# Altium footprint library PcbLib1.PcbLib: 23 footprints (part 2 of 2)
Each footprint in its own frame and in the unit in brackets; x right, y up, seen from the top. Pads: shape width x height; smd on the part's side, far side on the other; paste and mask are expansions set on the pad; w line width, h text height; cw(c..) or ccw(c..) is an arc to the next point about the centre after c.
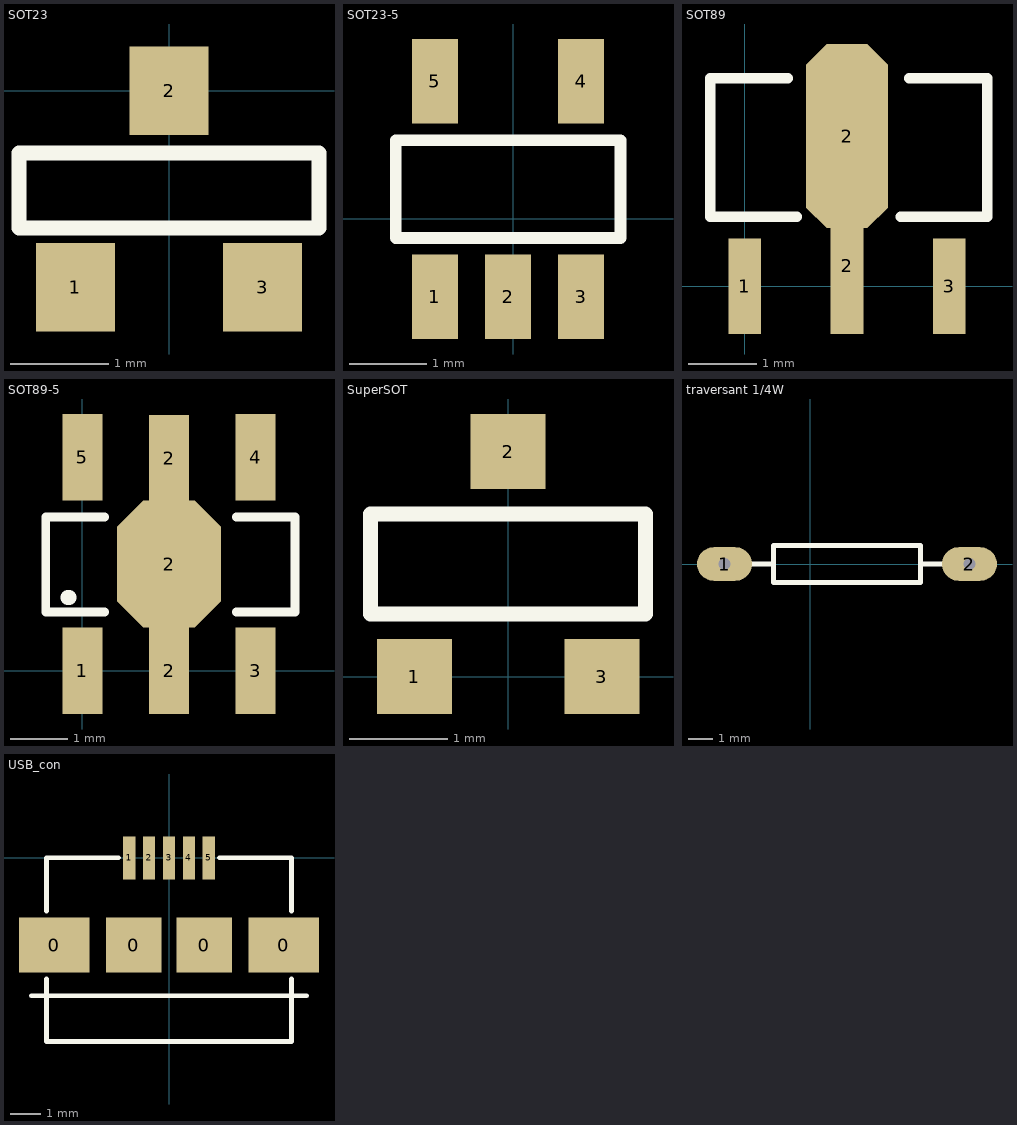
[diagram p1: the footprints below, top view; thin cyan lines are the x and y axes]

## SOT23 [mm]
pads (3):
  rect 0.8x0.9 smd: 1(-0.95,-2) 2(0,0) 3(0.95,-2)
Top Overlay:
  lines w0.152: -1.524,-1.397 1.524,-1.397 1.524,-0.635 -1.524,-0.635 -1.524,-1.397

## SOT23-5 [mm]
pads (5):
  rect 0.6x1.1 smd: 1(-1.016,-1.016) 2(-0.066,-1.016) 3(0.884,-1.016) 4(0.884,1.784) 5(-1.016,1.784)
Top Overlay:
  lines w0.152: -1.524,-0.254 -1.524,1.016 1.397,1.016 1.397,-0.254 -1.524,-0.254

## SOT89 [mm]
pads (4):
  rect 0.48x1.4 smd: 1(0,0) 3(3,0)
  rect 0.48x2 smd: 2(1.5,0.3)
  oct 1.2x2.7 smd: 2(1.5,2.2)
Top Overlay:
  lines w0.152: 0.635,3.048 -0.508,3.048 -0.508,1.016 0.762,1.016 ; 2.286,1.016 3.556,1.016 3.556,3.048 2.413,3.048

## SOT89-5 [mm]
pads (7):
  rect 0.7x1.5 smd: 1(0,0) 2(1.5,0) 2(1.5,3.683) 3(3,0) 4(3,3.7) 5(0,3.7)
  oct 1.8x2.2 smd: 2(1.5,1.85)
Top Overlay:
  lines w0.152: 0.381,1.016 -0.635,1.016 -0.635,2.667 0.381,2.667 ; 2.667,1.016 3.683,1.016 3.683,2.667 2.667,2.667
  lines w0.254: -0.254,1.27 -0.229,1.27

## SuperSOT [mil]
pads (3):
  rect 30x30 smd: 1(-37.5,0) 2(0,90) 3(37.5,0)
Top Overlay:
  lines w6: -55,25 -55,65 55,65 55,25 -55,25

## traversant 1/4W [mil]
pads (2):
  oval 90x55 hole 20: 1(-140,0) 2(260,0)
Top Overlay:
  lines w7.87: -99,0 -60,0 ; 219,0 180,0 ; 180,0 180,-30 -60,-30 -60,30 180,30 180,0

## USB_con [mm]
pads (9):
  rect 2.3x1.8 smd: 0(-3.75,-2.85) 0(3.75,-2.85)
  rect 1.8x1.8 smd: 0(-1.15,-2.85) 0(1.15,-2.85)
  rect 0.4x1.4 smd: 1(-1.3,0) 2(-0.65,0) 3(0,0) 4(0.65,0) 5(1.3,0)
Top Overlay:
  lines w0.152: -4.5,-4.5 4.5,-4.5 ; -4,-3.949 -4,-6 -3.5,-6 4,-6 4,-3.95 ; -4,-1.739 -4,0 -1.651,0 ; 1.651,0 4,0 4,-1.74